# EAGLE library part SI8600 (library silabs-isolators)
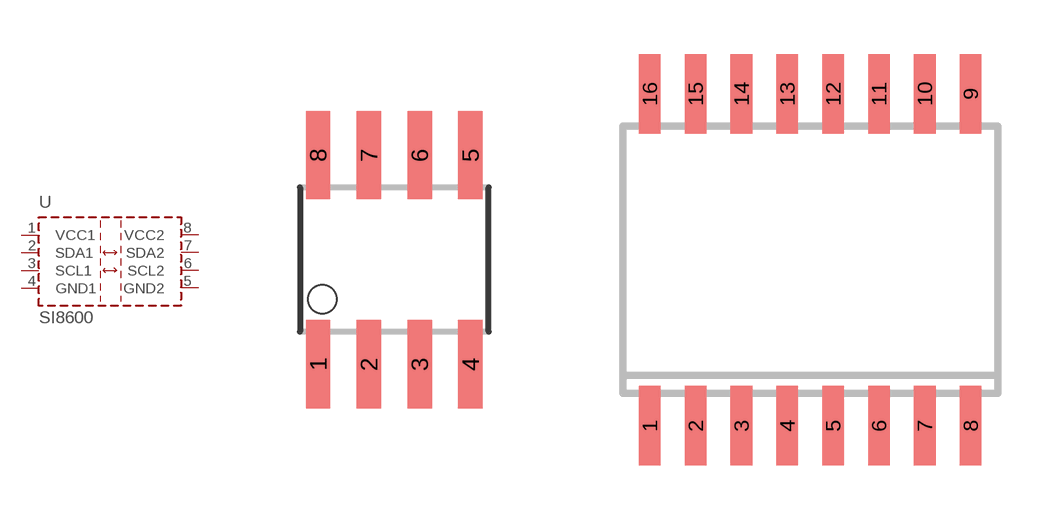
[diagram p0: symbol with the pads of SO08; footprints SO08, SO16W]

Designator prefix -

## SI8600AA (ISO: 1kV)  [SO08]
1  VCC1  in
2  SDA1
3  SCL1
4  GND1  in
5  GND2  in
6  SCL2
7  SDA2
8  VCC2  in

## SI8600AB (ISO: 2.5kV)  [SO08]
Pads as for SO08

## SI8600AC (ISO: 3.75kV)  [SO08]
Pads as for SO08

## SI8600AD (ISO: 5kV)  [SO16W]
1  GND1  in
3  VCC1  in
5  SDA1
6  SCL1
7  GND1  in
9  GND2  in
11  SCL2
12  SDA2
14  VCC2  in
16  GND2  in

## Footprint SO08 (pad centres in mm)
Small Outline Package
smd 0.61 x 2.21: 1 -1.905,-2.616; 2 -0.635,-2.616; 3 0.635,-2.616; 4 1.905,-2.616; 5 1.905,2.616; 6 0.635,2.616; 7 -0.635,2.616; 8 -1.905,2.616

## Footprint SO16W (pad centres in mm)
SMALL OUTLINE INTEGRATED CIRCUIT wide body 7.5 mm/JEDEC MS-013AA
smd 0.6 x 2.2: 1 -4.445,-4.6; 2 -3.175,-4.6; 3 -1.905,-4.6; 4 -0.635,-4.6; 5 0.635,-4.6; 6 1.905,-4.6; 7 3.175,-4.6; 8 4.445,-4.6; 9 4.445,4.6; 10 3.175,4.6; 11 1.905,4.6; 12 0.635,4.6; 13 -0.635,4.6; 14 -1.905,4.6; 15 -3.175,4.6; 16 -4.445,4.6